# EAGLE library part 43045-16 (library con-molex-micro-fit)
HEADER
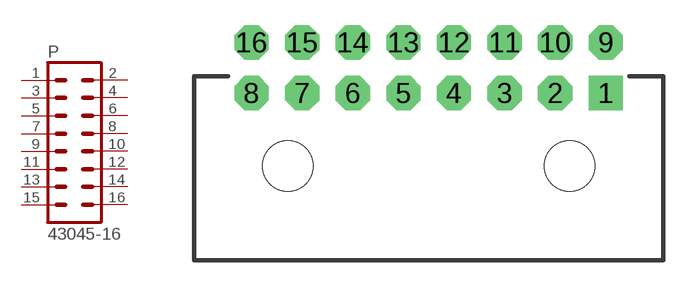
[diagram p5: symbol with the pads of 43045-16; footprint 43045-16]

Designator prefix P

## 43045-16  [43045-16]
1  1  pas
2  2  pas
3  3  pas
4  4  pas
5  5  pas
6  6  pas
7  7  pas
8  8  pas
9  9  pas
10  10  pas
11  11  pas
12  12  pas
13  13  pas
14  14  pas
15  15  pas
16  16  pas

## Footprint 43045-16 (pad centres in mm)
HEADER
drill 1.016 pad 2.032 square: 1 10.5,0
drill 1.016 pad 2.032 octagon: 2 7.5,0; 3 4.5,0; 4 1.5,0; 5 -1.5,0; 6 -4.5,0; 7 -7.5,0; 8 -10.5,0; 9 10.5,3; 10 7.5,3; 11 4.5,3; 12 1.5,3; 13 -1.5,3; 14 -4.5,3; 15 -7.5,3; 16 -10.5,3
hole 3 at -8.35,-4.32
hole 3 at 8.35,-4.32